# Altium schematic symbol library 2.7 - STM32 F4系列单片机.SchLib: 31 symbols (part 5 of 5)
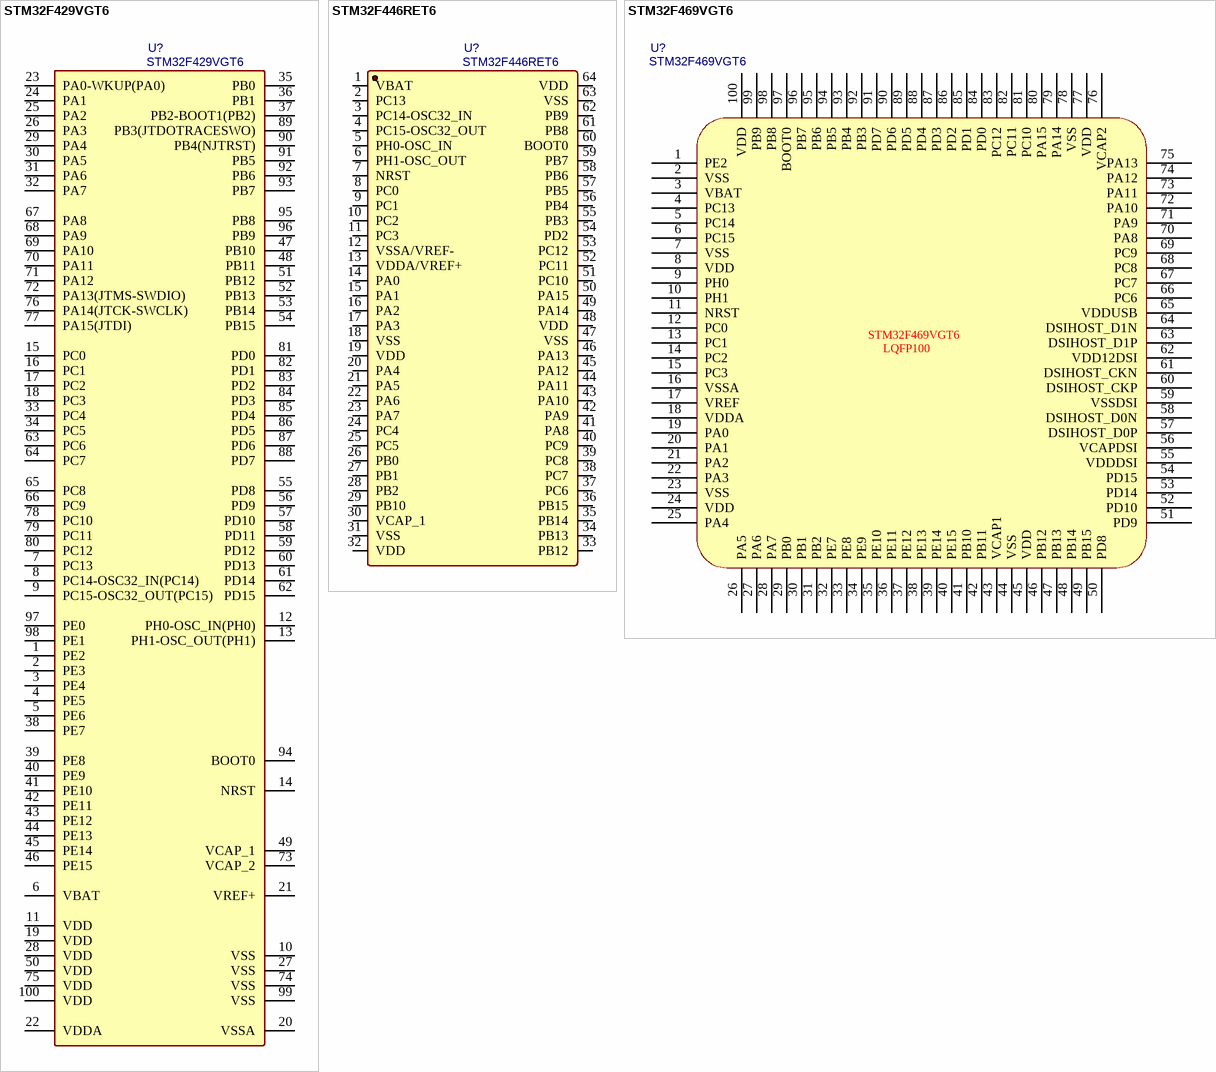
[diagram p27: symbols STM32F429VGT6 to STM32F469VGT6]

## STM32F446RET6
designator U?
1.库作者: 冰凌猫; 2.库版本: v2.0 (2021.03.30); 3.交流分享: Q群514746572,开源更新,欢迎一起交流学习PCB设计; 4.作者声明: 旨为整合最全库集,欢迎转载,禁止商用！-冰凌猫; 5.备注说明: 该库已二次整合过网上各热销库,基本最全,无需重复搜购安装
footprint LQFP64_L (Thin QFP, 64-Leads, Body 10x10mm, Pitch 0.5mm, IPC High Density)
pins: 1 VBAT, 2 PC13, 3 PC14-OSC32_IN, 4 PC15-OSC32_OUT, 5 PH0-OSC_IN, 6 PH1-OSC_OUT, 7 NRST, 8 PC0, 9 PC1, 10 PC2, 11 PC3, 12 VSSA/VREF-, 13 VDDA/VREF+, 14 PA0, 15 PA1, 16 PA2, 17 PA3, 18 VSS, 19 VDD, 20 PA4, 21 PA5, 22 PA6, 23 PA7, 24 PC4, 25 PC5, 26 PB0, 27 PB1, 28 PB2, 29 PB10, 30 VCAP_1, 31 VSS, 32 VDD, 33 PB12, 34 PB13, 35 PB14, 36 PB15, 37 PC6, 38 PC7, 39 PC8, 40 PC9, 41 PA8, 42 PA9, 43 PA10, 44 PA11, 45 PA12, 46 PA13, 47 VSS, 48 VDD, 49 PA14, 50 PA15, 51 PC10, 52 PC11, 53 PC12, 54 PD2, 55 PB3, 56 PB4, 57 PB5, 58 PB6, 59 PB7, 60 BOOT0, 61 PB8, 62 PB9, 63 VSS, 64 VDD

## STM32F469VGT6
designator U?
1.库作者: 冰凌猫; 2.库版本: v2.0 (2021.03.30); 3.交流分享: Q群514746572,开源更新,欢迎一起交流学习PCB设计; 4.作者声明: 旨为整合最全库集,欢迎转载,禁止商用！-冰凌猫; 5.备注说明: 该库已二次整合过网上各热销库,基本最全,无需重复搜购安装
footprint LQFP100_N (Thin QFP, 100-Leads, Body 14x14mm, Pitch 0.5mm, IPC Medium Density)
pins: 1 PE2, 2 VSS, 3 VBAT, 4 PC13, 5 PC14, 6 PC15, 7 VSS, 8 VDD, 9 PH0, 10 PH1, 11 NRST, 12 PC0, 13 PC1, 14 PC2, 15 PC3, 16 VSSA, 17 VREF, 18 VDDA, 19 PA0, 20 PA1, 21 PA2, 22 PA3, 23 VSS, 24 VDD, 25 PA4, 26 PA5, 27 PA6, 28 PA7, 29 PB0, 30 PB1, 31 PB2, 32 PE7, 33 PE8, 34 PE9, 35 PE10, 36 PE11, 37 PE12, 38 PE13, 39 PE14, 40 PE15, 41 PB10, 42 PB11, 43 VCAP1, 44 VSS, 45 VDD, 46 PB12, 47 PB13, 48 PB14, 49 PB15, 50 PD8, 51 PD9, 52 PD10, 53 PD14, 54 PD15, 55 VDDDSI, 56 VCAPDSI, 57 DSIHOST_D0P, 58 DSIHOST_D0N, 59 VSSDSI, 60 DSIHOST_CKP, 61 DSIHOST_CKN, 62 VDD12DSI, 63 DSIHOST_D1P, 64 DSIHOST_D1N, 65 VDDUSB, 66 PC6, 67 PC7, 68 PC8, 69 PC9, 70 PA8, 71 PA9, 72 PA10, 73 PA11, 74 PA12, 75 PA13, 76 VCAP2, 77 VDD, 78 VSS, 79 PA14, 80 PA15, 81 PC10, 82 PC11, 83 PC12, 84 PD0, 85 PD1, 86 PD2, 87 PD3, 88 PD4, 89 PD5, 90 PD6, 91 PD7, 92 PB3, 93 PB4, 94 PB5, 95 PB6, 96 PB7, 97 BOOT0, 98 PB8, 99 PB9, 100 VDD
text: / STM32F469VGT6 / LQFP100